# EAGLE library part AD7730 (library Taylor)
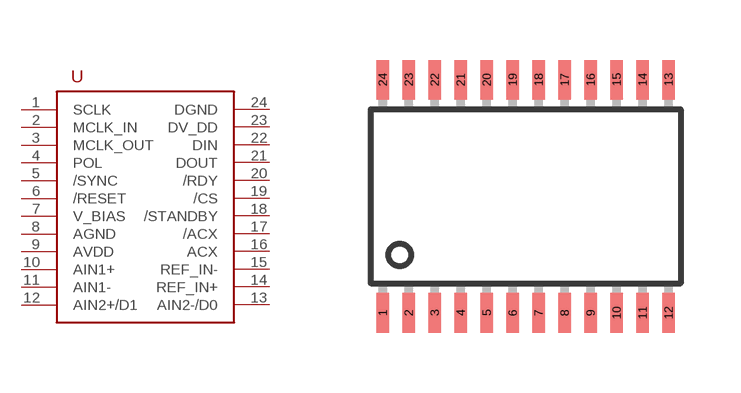
[diagram p3: symbol with the pads of TSSOP24; footprint TSSOP24]

Designator prefix -

## AD7730  [TSSOP24]
1  SCLK
2  MCLK_IN
3  MCLK_OUT
4  POL
5  /SYNC
6  /RESET
7  V_BIAS
8  AGND
9  AVDD
10  AIN1+
11  AIN1-
12  AIN2+/D1
13  AIN2-/D0
14  REF_IN+
15  REF_IN-
16  ACX
17  /ACX
18  /STANDBY
19  /CS
20  /RDY
21  DOUT
22  DIN
23  DV_DD
24  DGND

## Footprint TSSOP24 (pad centres in mm)
24-Lead Thin Shrink Small Outline Package TSSOP (RU-24) Source: http://www.analog.com/UploadedFiles/Data_Sheets/39677768AD7714_c.pdf
smd 0.305 x 0.991: 1 -3.575,-2.918; 2 -2.925,-2.918; 3 -2.275,-2.918; 4 -1.625,-2.918; 5 -0.975,-2.918; 6 -0.325,-2.918; 7 0.325,-2.918; 8 0.975,-2.918; 9 1.625,-2.918; 10 2.275,-2.918; 11 2.925,-2.918; 12 3.575,-2.918; 13 3.575,2.918; 14 2.925,2.918; 15 2.275,2.918; 16 1.625,2.918; 17 0.975,2.918; 18 0.325,2.918; 19 -0.325,2.918; 20 -0.975,2.918; 21 -1.625,2.918; 22 -2.275,2.918; 23 -2.925,2.918; 24 -3.575,2.918